# EAGLE library part MCU_ATMEGA328P_ARDUINO_DIP28 (library akita)
ATmega328P, Arduino's pin assign, DIP28
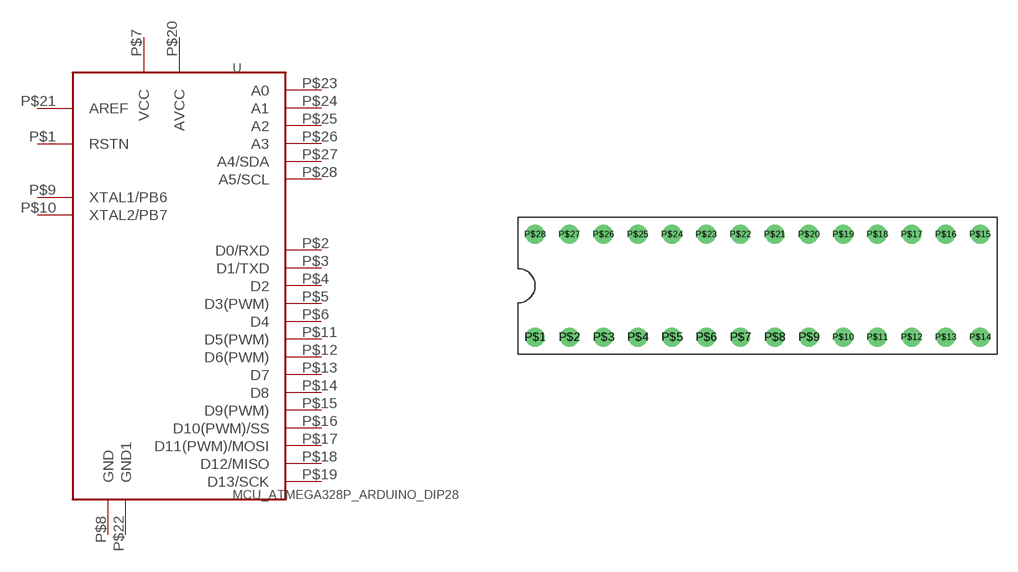
[diagram p192: symbol with the pads of DIP-28P(300MIL); footprint DIP-28P(300MIL)]

Designator prefix U

## MCU_ATMEGA328P_ARDUINO_DIP28  [DIP-28P(300MIL)]
P$1  RSTN
P$2  D0/RXD
P$3  D1/TXD
P$4  D2
P$5  D3(PWM)
P$6  D4
P$7  VCC  pwr
P$8  GND  pwr
P$9  XTAL1/PB6
P$10  XTAL2/PB7
P$11  D5(PWM)
P$12  D6(PWM)
P$13  D7
P$14  D8
P$15  D9(PWM)
P$16  D10(PWM)/SS
P$17  D11(PWM)/MOSI
P$18  D12/MISO
P$19  D13/SCK
P$20  AVCC  pwr
P$21  AREF
P$22  GND1  pwr
P$23  A0
P$24  A1
P$25  A2
P$26  A3
P$27  A4/SDA
P$28  A5/SCL

## Footprint DIP-28P(300MIL) (pad centres in mm)
drill 0.9: P$1 -17.78,-3.81; P$2 -15.24,-3.81; P$3 -12.7,-3.81; P$4 -10.16,-3.81; P$5 -7.62,-3.81; P$6 -5.08,-3.81; P$7 -2.54,-3.81; P$8 0,-3.81; P$9 2.54,-3.81; P$10 5.08,-3.81; P$11 7.62,-3.81; P$12 10.16,-3.81; P$13 12.7,-3.81; P$14 15.24,-3.81; P$15 15.24,3.81; P$16 12.7,3.81; P$17 10.16,3.81; P$18 7.62,3.81; P$19 5.08,3.81; P$20 2.54,3.81; P$21 0,3.81; P$22 -2.54,3.81; P$23 -5.08,3.81; P$24 -7.62,3.81; P$25 -10.16,3.81; P$26 -12.7,3.81; P$27 -15.24,3.81; P$28 -17.78,3.81